# EAGLE library part HBUS (library isystems-phoenixcontact)
Phoenix Contact HBUS...-16P-1S BK Tragschienen Busverbinder
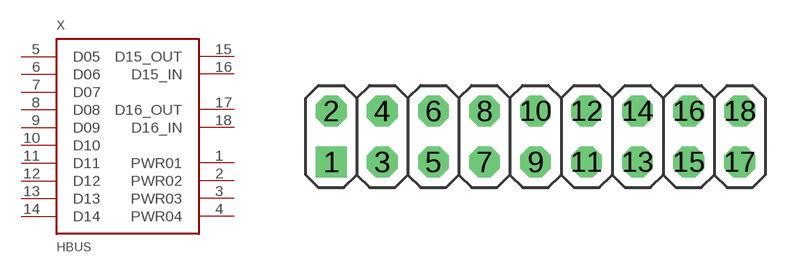
[diagram p21: symbol with the pads of 2X09; footprint 2X09]

Designator prefix X

## HBUS  [2X09]
1  PWR01
2  PWR02
3  PWR03
4  PWR04
5  D05
6  D06
7  D07
8  D08
9  D09
10  D10
11  D11
12  D12
13  D13
14  D14
15  D15_OUT  out
16  D15_IN  in
17  D16_OUT  out
18  D16_IN  in

## Footprint 2X09 (pad centres in mm)
PIN HEADER - 2.54
drill 1.016 square: 1 -10.16,-1.27
drill 1.016 octagon: 2 -10.16,1.27; 3 -7.62,-1.27; 4 -7.62,1.27; 5 -5.08,-1.27; 6 -5.08,1.27; 7 -2.54,-1.27; 8 -2.54,1.27; 9 0,-1.27; 10 0,1.27; 11 2.54,-1.27; 12 2.54,1.27; 13 5.08,-1.27; 14 5.08,1.27; 15 7.62,-1.27; 16 7.62,1.27; 17 10.16,-1.27; 18 10.16,1.27